# EAGLE library part ESP8266-1 (library FansElectronics-Modul)
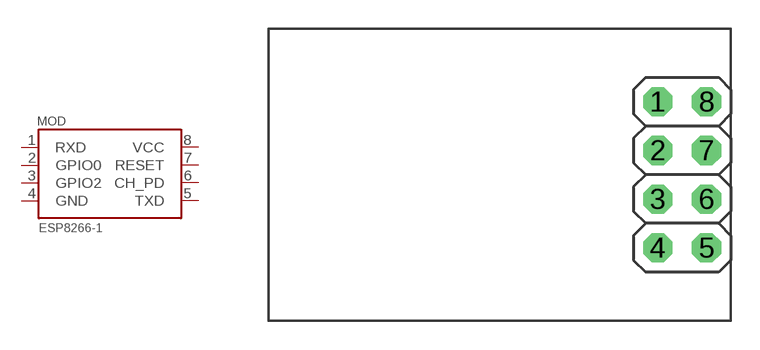
[diagram p2: symbol with the pads of ESP8266-1; footprint ESP8266-1]

Designator prefix MOD

## ESP8266-1  [ESP8266-1]
1  RXD
2  GPIO0
3  GPIO2
4  GND  pwr
5  TXD
6  CH_PD
7  RESET
8  VCC  pwr

## Footprint ESP8266-1 (pad centres in mm)
drill 1.016 octagon: 1 -1.27,3.81; 2 -1.27,1.27; 3 -1.27,-1.27; 4 -1.27,-3.81; 5 1.27,-3.81; 6 1.27,-1.27; 7 1.27,1.27; 8 1.27,3.81